# EAGLE library part AUDIOAMP_LM4811 (library microbuilder)
LM4811 - Dual 105mW Headphone Amplifier with Digital Volume Control Digikey: MSOP-10 - LM4811MMCT-ND
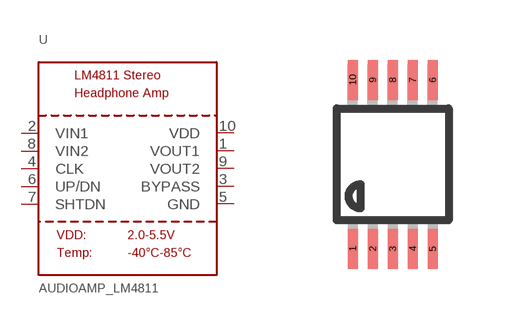
[diagram p85: symbol with the pads of MSOP10; footprint MSOP10]

Designator prefix U

## AUDIOAMP_LM4811  [MSOP10]
1  VOUT1
2  VIN1
3  BYPASS
4  CLK
5  GND
6  UP/DN
7  SHTDN
8  VIN2
9  VOUT2
10  VDD

## Footprint MSOP10 (pad centres in mm)
10-Lead Mini Small Outline Package [MSOP]
smd 0.25 x 1: 1 -1,-2.113; 2 -0.5,-2.113; 3 0,-2.113; 4 0.5,-2.113; 5 1,-2.113; 6 1,2.113; 7 0.5,2.113; 8 0,2.113; 9 -0.5,2.113; 10 -1,2.113